# Altium schematic symbol library SD card.SchLib: 2 symbols
Pins are listed as number, name and electrical type; pins without a type are passive.

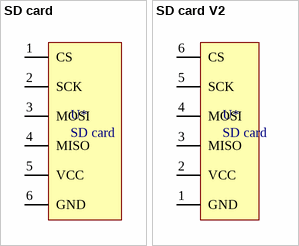
[diagram p0: symbols SD card to SD card V2]

## SD card
designator U*
footprint SULLINS_PPTC061LFBN-RC
pins: 1 CS, 2 SCK, 3 MOSI, 4 MISO, 5 VCC, 6 GND

## SD card V2
designator U*, comment SD card
footprint SULLINS_PPTC061LFBN-RC - duplicate
pins: 1 GND, 2 VCC, 3 MISO, 4 MOSI, 5 SCK, 6 CS